# EAGLE library part 52271-0469 (library Molex_By_element14_Batch_1)
CONNECTOR, FPC, 1.0MM, 4 WAY
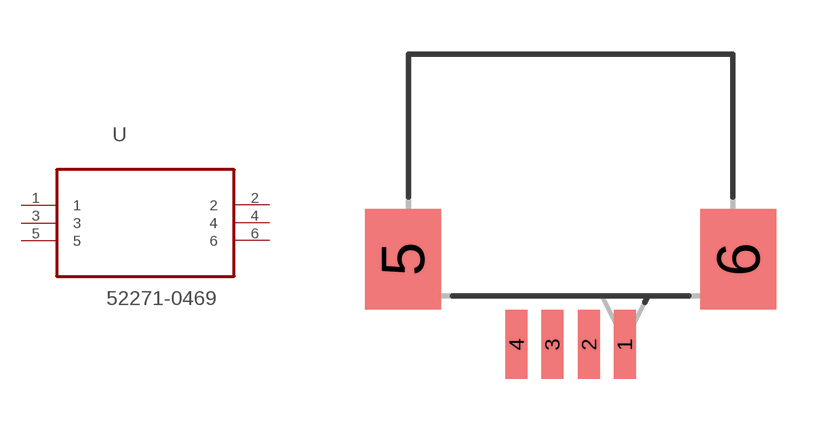
[diagram p9: symbol with the pads of MOLEX_52271-0469; footprint MOLEX_52271-0469]

Designator prefix U

## 52271-0469 (MPN: 52271-0469; OC_FARNELL: 1757086; OC_NEWARK: 07P8558; PACKAGE: CONNECTOR, FPC, 1.0MM, 4 WAY; SUPPLIER: Molex)  [MOLEX_52271-0469]
1  1  pas
2  2  pas
3  3  pas
4  4  pas
5  5  pas
6  6  pas

## Footprint MOLEX_52271-0469 (pad centres in mm)
smd 0.61 x 1.905: 1 1.499,4.699; 2 0.508,4.699; 3 -0.508,4.699; 4 -1.499,4.699
smd 2.108 x 2.794: 5 -4.648,7.061; 6 4.648,7.061